# Altium footprint library CustomFootprints.PcbLib: 67 footprints (part 5 of 5)
Each footprint in its own frame and in the unit in brackets; x right, y up, seen from the top. Pads: shape width x height; smd on the part's side, far side on the other; paste and mask are expansions set on the pad; w line width, h text height; cw(c..) or ccw(c..) is an arc to the next point about the centre after c.
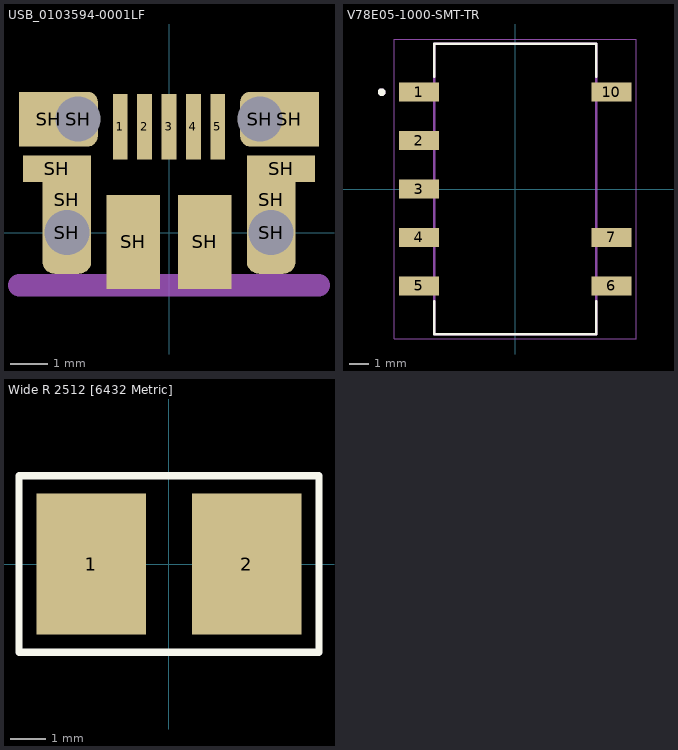
[diagram p4: the footprints below, top view; thin cyan lines are the x and y axes]

## USB_0103594-0001LF [mm] "Micro USB B connector"
height 3
pads (17):
  rect 0.4x1.75 smd: 1(-1.3,2.825) 2(-0.65,2.825) 3(0,2.825) 4(0.65,2.825) 5(1.3,2.825)
  rect 1.6x1.46 smd: SH(-3.2,3.025) SH(3.2,3.025)
  rect 1.825x0.7 smd: SH(-2.987,1.7) SH(2.987,1.7)
  rrect50% 1.3x2.2 hole 1.2: SH(-2.725,0) SH(2.725,0)
  rrect50% 1.3x2.2 smd: SH(-2.725,0.875) SH(2.725,0.875)
  rrect50% 1.05x1.46 hole 1.2: SH(-2.425,3.025) SH(2.425,3.025)
  rect 1.425x2.5 smd: SH(-0.95,-0.25) SH(0.95,-0.25)
Mechanical 15:
  lines w0.6: -4,-1.4 4,-1.4
3D body "10103594-0001LF--3DModel-STEP-56544.STEP": height 3.13, standoff -0.47, extent -4.27,-2.5 3.77,3.533

## V78E05-1000-SMT-TR [mm]
pads (8):
  rect 2.1x1 smd: 1(-5.05,5.08) 2(-5.05,2.54) 3(-5.05,0) 4(-5.05,-2.54) 5(-5.05,-5.08) 6(5.05,-5.08) 7(5.05,-2.54) 10(5.05,5.08)
Top Overlay:
  circle w0.2: c-7,5.08 r0.1
  lines w0.127: -4.25,-5.9 -4.25,-7.62 4.25,-7.62 4.25,-5.9 ; -4.25,5.9 -4.25,7.62 4.25,7.62 4.25,5.9
Mechanical 4:
  circle w0.2: c-7,5.08 r0.1
  circle w0.2: c-7,5.08 r0.1
  lines w0.127: -4.25,-7.62 4.25,-7.62 ; -4.25,-7.62 -4.25,7.62 ; -4.25,-7.62 4.25,-7.62 ; -4.25,-7.62 -4.25,7.62 ; -4.25,7.62 4.25,7.62 ; -4.25,7.62 4.25,7.62 ; 4.25,-7.62 4.25,7.62 ; 4.25,-7.62 4.25,7.62
Mechanical 16:
  lines w0.05: -6.35,-7.87 -6.35,7.87 6.35,7.87 6.35,-7.87 -6.35,-7.87
3D body "CUI_V78E05-1000-SMT-TR.step": height 8, standoff -0.25, extent -5.7,-7.62 5.7,7.62

## Wide R 2512 [6432 Metric] [mm]
pads (2):
  rect 3.1x4 smd: 1(-2.2,0) 2(2.2,0)
Top Overlay:
  lines w0.2: -4.25,-2.5 -4.25,0 -4.25,2.5 4.25,2.5 4.25,-2.5 -4.25,-2.5